# Altium footprint library PinHeader.PcbLib: 118 footprints (part 6 of 8)
Each footprint in its own frame and in the unit in brackets; x right, y up, seen from the top. Pads: shape width x height; smd on the part's side, far side on the other; paste and mask are expansions set on the pad; w line width, h text height; cw(c..) or ccw(c..) is an arc to the next point about the centre after c.
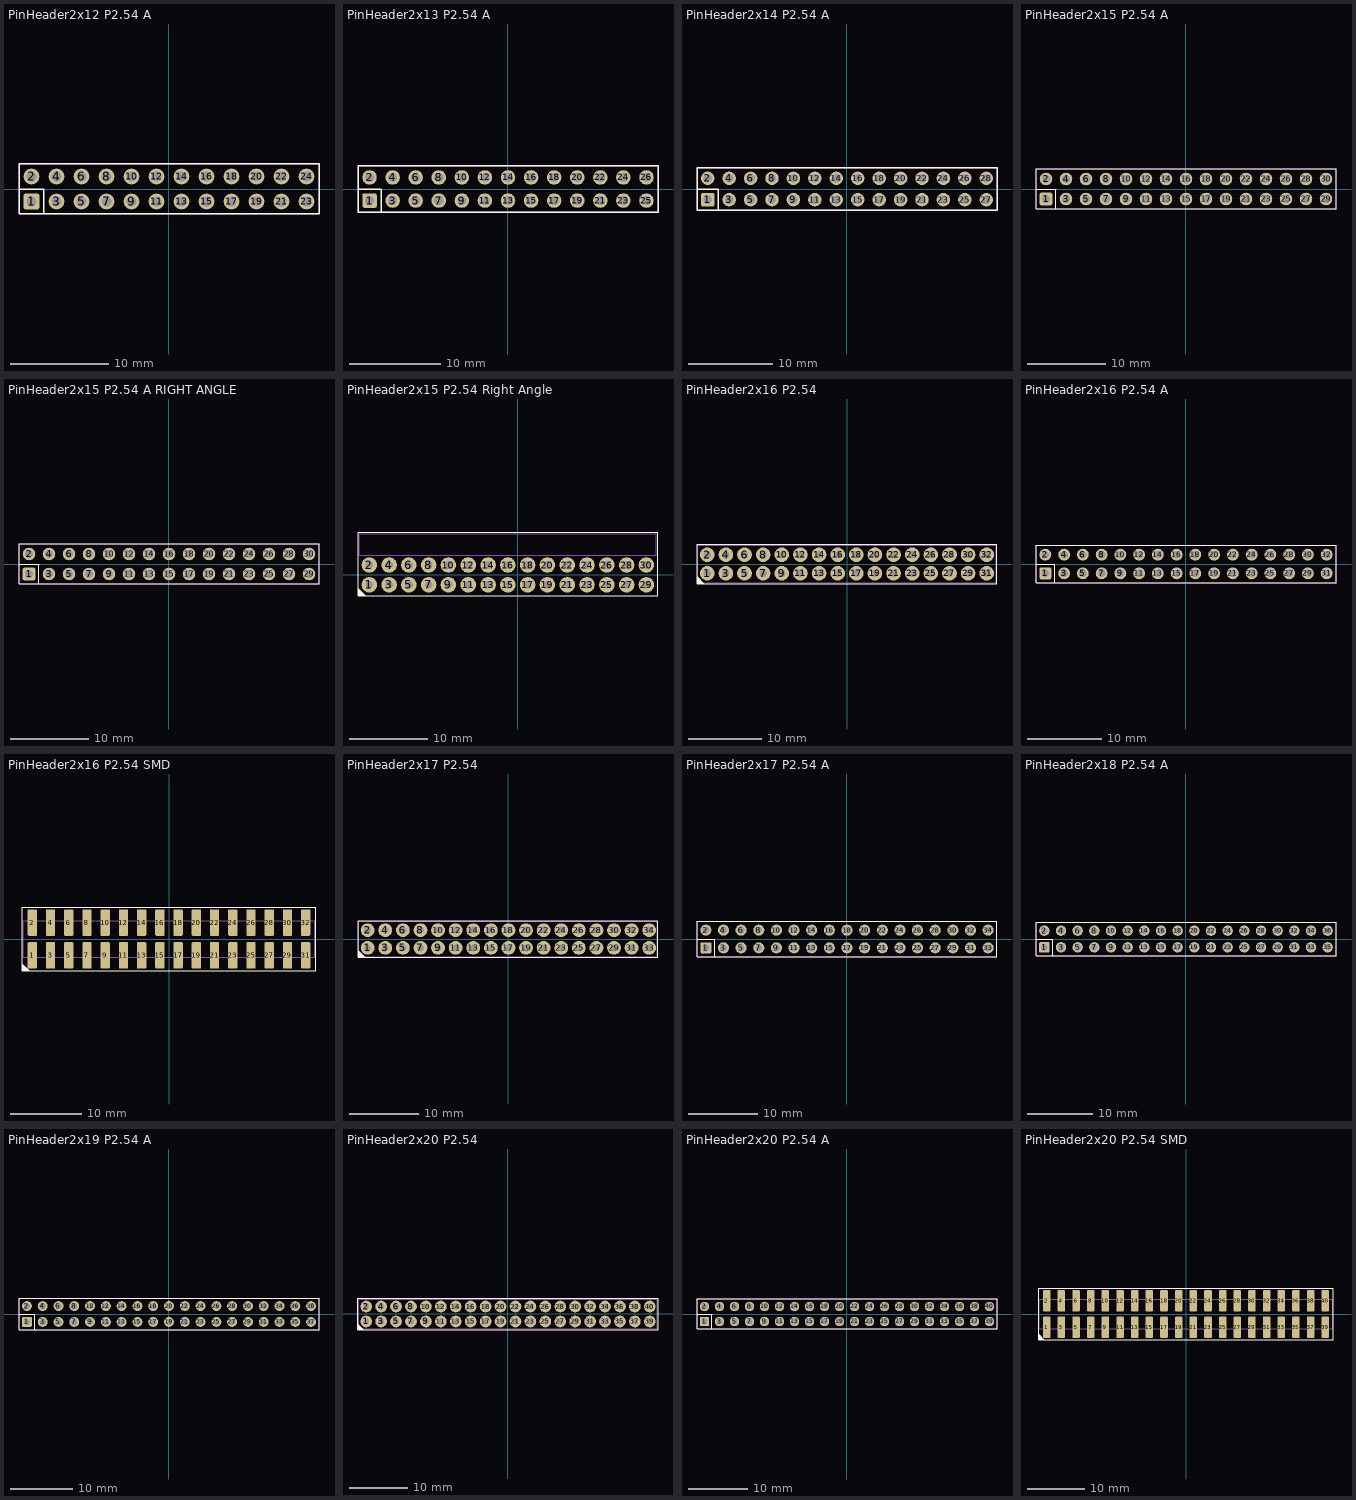
[diagram p5: the footprints below, top view; thin cyan lines are the x and y axes]

## PinHeader2x12 P2.54 A [mm] "Plug connector"
height 8.5
pads (24):
  rrect25% 1.6x1.6 hole 1: 1(-13.97,-1.27)
  round 1.6 hole 1: 2(-13.97,1.27) 3(-11.43,-1.27) 4(-11.43,1.27) 5(-8.89,-1.27) 6(-8.89,1.27) 7(-6.35,-1.27) 8(-6.35,1.27) 9(-3.81,-1.27) 10(-3.81,1.27) 11(-1.27,-1.27) 12(-1.27,1.27) 13(1.27,-1.27) 14(1.27,1.27) 15(3.81,-1.27) 16(3.81,1.27) 17(6.35,-1.27) 18(6.35,1.27) 19(8.89,-1.27) 20(8.89,1.27) 21(11.43,-1.27) 22(11.43,1.27) 23(13.97,-1.27) 24(13.97,1.27)
Top Overlay:
  lines w0.15: -15.24,0 -12.7,0 -12.7,-2.54 ; -15.24,-2.54 -15.24,2.54 15.24,2.54 15.24,-2.54 -15.24,-2.54
Mechanical 13:
  lines w0.15: -15.24,-2.54 15.24,-2.54 15.24,2.54 -15.24,2.54 -15.24,-2.54
3D body: height 2.5, standoff 0.1, extent -15.24,-2.54 15.24,2.54
3D body: height 8.5, standoff 2.6, extent -14.287,-1.587 14.287,1.587

## PinHeader2x13 P2.54 A [mm] "Plug connector"
height 8.5
pads (26):
  rrect25% 1.6x1.6 hole 1: 1(-15.24,-1.27)
  round 1.6 hole 1: 2(-15.24,1.27) 3(-12.7,-1.27) 4(-12.7,1.27) 5(-10.16,-1.27) 6(-10.16,1.27) 7(-7.62,-1.27) 8(-7.62,1.27) 9(-5.08,-1.27) 10(-5.08,1.27) 11(-2.54,-1.27) 12(-2.54,1.27) 13(0,-1.27) 14(0,1.27) 15(2.54,-1.27) 16(2.54,1.27) 17(5.08,-1.27) 18(5.08,1.27) 19(7.62,-1.27) 20(7.62,1.27) 21(10.16,-1.27) 22(10.16,1.27) 23(12.7,-1.27) 24(12.7,1.27) 25(15.24,-1.27) 26(15.24,1.27)
Top Overlay:
  lines w0.15: -16.51,0 -13.97,0 -13.97,-2.54 ; -16.51,-2.54 16.51,-2.54 16.51,2.54 -16.51,2.54 -16.51,-2.54
Mechanical 13:
  lines w0.15: -16.51,-2.54 -16.51,2.54 16.51,2.54 16.51,-2.54 -16.51,-2.54
3D body: height 8.5, standoff 2.6, extent -15.557,-1.587 15.557,1.587
3D body: height 2.5, standoff 0.1, extent -16.51,-2.54 16.51,2.54

## PinHeader2x14 P2.54 A [mm] "Plug connector"
height 8.5
pads (28):
  rrect25% 1.6x1.6 hole 1: 1(-16.51,-1.27)
  round 1.6 hole 1: 2(-16.51,1.27) 3(-13.97,-1.27) 4(-13.97,1.27) 5(-11.43,-1.27) 6(-11.43,1.27) 7(-8.89,-1.27) 8(-8.89,1.27) 9(-6.35,-1.27) 10(-6.35,1.27) 11(-3.81,-1.27) 12(-3.81,1.27) 13(-1.27,-1.27) 14(-1.27,1.27) 15(1.27,-1.27) 16(1.27,1.27) 17(3.81,-1.27) 18(3.81,1.27) 19(6.35,-1.27) 20(6.35,1.27) 21(8.89,-1.27) 22(8.89,1.27) 23(11.43,-1.27) 24(11.43,1.27) 25(13.97,-1.27) 26(13.97,1.27) 27(16.51,-1.27) 28(16.51,1.27)
Top Overlay:
  lines w0.15: -17.78,0 -15.24,0 -15.24,-2.54 ; -17.78,-2.54 -17.78,2.54 17.78,2.54 17.78,-2.54 -17.78,-2.54
Mechanical 13:
  lines w0.15: -17.78,-2.54 17.78,-2.54 17.78,2.54 -17.78,2.54 -17.78,-2.54
3D body: height 2.5, standoff 0.1, extent -17.78,-2.54 17.78,2.54
3D body: height 8.5, standoff 2.6, extent -16.828,-1.587 16.828,1.587

## PinHeader2x15 P2.54 A [mm] "Plug connector"
height 8.5
pads (30):
  rrect25% 1.6x1.6 hole 1: 1(-17.78,-1.27)
  round 1.6 hole 1: 2(-17.78,1.27) 3(-15.24,-1.27) 4(-15.24,1.27) 5(-12.7,-1.27) 6(-12.7,1.27) 7(-10.16,-1.27) 8(-10.16,1.27) 9(-7.62,-1.27) 10(-7.62,1.27) 11(-5.08,-1.27) 12(-5.08,1.27) 13(-2.54,-1.27) 14(-2.54,1.27) 15(0,-1.27) 16(0,1.27) 17(2.54,-1.27) 18(2.54,1.27) 19(5.08,-1.27) 20(5.08,1.27) 21(7.62,-1.27) 22(7.62,1.27) 23(10.16,-1.27) 24(10.16,1.27) 25(12.7,-1.27) 26(12.7,1.27) 27(15.24,-1.27) 28(15.24,1.27) 29(17.78,-1.27) 30(17.78,1.27)
Top Overlay:
  lines w0.15: -19.05,0 -16.51,0 -16.51,-2.54 ; -19.05,-2.54 -19.05,2.54 19.05,2.54 19.05,-2.54 -19.05,-2.54
Mechanical 13:
  lines w0.15: -19.05,-2.54 19.05,-2.54 19.05,2.54 -19.05,2.54 -19.05,-2.54
3D body: height 2.5, standoff 0.1, extent -19.05,-2.54 19.05,2.54
3D body: height 8.5, standoff 2.6, extent -18.098,-1.588 18.098,1.587

## PinHeader2x15 P2.54 A RIGHT ANGLE [mm] "Plug connector"
height 8.5
pads (30):
  rrect25% 1.6x1.6 hole 1: 1(-17.78,-1.27)
  round 1.6 hole 1: 2(-17.78,1.27) 3(-15.24,-1.27) 4(-15.24,1.27) 5(-12.7,-1.27) 6(-12.7,1.27) 7(-10.16,-1.27) 8(-10.16,1.27) 9(-7.62,-1.27) 10(-7.62,1.27) 11(-5.08,-1.27) 12(-5.08,1.27) 13(-2.54,-1.27) 14(-2.54,1.27) 15(0,-1.27) 16(0,1.27) 17(2.54,-1.27) 18(2.54,1.27) 19(5.08,-1.27) 20(5.08,1.27) 21(7.62,-1.27) 22(7.62,1.27) 23(10.16,-1.27) 24(10.16,1.27) 25(12.7,-1.27) 26(12.7,1.27) 27(15.24,-1.27) 28(15.24,1.27) 29(17.78,-1.27) 30(17.78,1.27)
Top Overlay:
  lines w0.15: -19.05,0 -16.51,0 -16.51,-2.54 ; -19.05,-2.54 19.05,-2.54 19.05,2.54 -19.05,2.54 -19.05,-2.54
Mechanical 13:
  lines w0.15: -19.05,-2.54 -19.05,2.54 19.05,2.54 19.05,-2.54 -19.05,-2.54
3D body: height 4.1, standoff 0.8, extent -18.098,-10.3 18.098,-4.513
3D body: height 4.1, standoff 0.1, extent -18.098,-2.6 18.098,1.587
3D body: height 5, standoff 0.1, extent -19.05,-4.54 19.05,-2.5

## PinHeader2x15 P2.54 Right Angle [mm] "Plug connector"
height 4.8
pads (30):
  round 2 hole 1: 1(-19.05,-1.27) 2(-19.05,1.27) 3(-16.51,-1.27) 4(-16.51,1.27) 5(-13.97,-1.27) 6(-13.97,1.27) 7(-11.43,-1.27) 8(-11.43,1.27) 9(-8.89,-1.27) 10(-8.89,1.27) 11(-6.35,-1.27) 12(-6.35,1.27) 13(-3.81,-1.27) 14(-3.81,1.27) 15(-1.27,-1.27) 16(-1.27,1.27) 17(1.27,-1.27) 18(1.27,1.27) 19(3.81,-1.27) 20(3.81,1.27) 21(6.35,-1.27) 22(6.35,1.27) 23(8.89,-1.27) 24(8.89,1.27) 25(11.43,-1.27) 26(11.43,1.27) 27(13.97,-1.27) 28(13.97,1.27) 29(16.51,-1.27) 30(16.51,1.27)
Top Overlay:
  region: -20.5,-2.7 -20.5,-1.684 -19.484,-2.7
  lines w0.15: -20.5,-2.7 18,-2.7 18,5.5 -20.5,5.5 -20.5,-2.7
Mechanical 13:
  lines w0.15: -20.32,2.5 -20.32,5.3 17.78,5.3 17.78,2.5 -20.32,2.5
3D body: height 5.08, standoff 0, extent -20.32,2.5 17.78,5.3
3D body: height 1.55, standoff 0.95, extent -19.35,0.97 -18.75,11.3
3D body: height 1.25, standoff -2.5, extent -19.35,0.97 -18.75,1.57
3D body: height 4.1, standoff -2.5, extent -19.35,-1.57 -18.75,-0.97
3D body: height 4.1, standoff 3.5, extent -19.35,-1.57 -18.75,11.3
3D body: height 4.1, standoff 3.5, extent -16.81,-1.57 -16.21,11.3
3D body: height 4.1, standoff -2.5, extent -16.81,-1.57 -16.21,-0.97
3D body: height 1.25, standoff -2.5, extent -16.81,0.97 -16.21,1.57
3D body: height 1.55, standoff 0.95, extent -16.81,0.97 -16.21,11.3
3D body: height 4.1, standoff 3.5, extent -14.27,-1.57 -13.67,11.3
3D body: height 4.1, standoff -2.5, extent -14.27,-1.57 -13.67,-0.97
3D body: height 1.25, standoff -2.5, extent -14.27,0.97 -13.67,1.57
3D body: height 1.55, standoff 0.95, extent -14.27,0.97 -13.67,11.3
3D body: height 4.1, standoff 3.5, extent -11.73,-1.57 -11.13,11.3
3D body: height 4.1, standoff -2.5, extent -11.73,-1.57 -11.13,-0.97
3D body: height 1.25, standoff -2.5, extent -11.73,0.97 -11.13,1.57
3D body: height 1.55, standoff 0.95, extent -11.73,0.97 -11.13,11.3
3D body: height 4.1, standoff 3.5, extent -9.19,-1.57 -8.59,11.3
3D body: height 4.1, standoff -2.5, extent -9.19,-1.57 -8.59,-0.97
3D body: height 1.25, standoff -2.5, extent -9.19,0.97 -8.59,1.57
3D body: height 1.55, standoff 0.95, extent -9.19,0.97 -8.59,11.3
3D body: height 4.1, standoff 3.5, extent -6.65,-1.57 -6.05,11.3
3D body: height 4.1, standoff -2.5, extent -6.65,-1.57 -6.05,-0.97
3D body: height 1.25, standoff -2.5, extent -6.65,0.97 -6.05,1.57
3D body: height 1.55, standoff 0.95, extent -6.65,0.97 -6.05,11.3
3D body: height 4.1, standoff 3.5, extent -4.11,-1.57 -3.51,11.3
3D body: height 4.1, standoff -2.5, extent -4.11,-1.57 -3.51,-0.97
3D body: height 1.25, standoff -2.5, extent -4.11,0.97 -3.51,1.57
3D body: height 1.55, standoff 0.95, extent -4.11,0.97 -3.51,11.3
3D body: height 4.1, standoff 3.5, extent -1.57,-1.57 -0.97,11.3
3D body: height 4.1, standoff -2.5, extent -1.57,-1.57 -0.97,-0.97
3D body: height 1.25, standoff -2.5, extent -1.57,0.97 -0.97,1.57
3D body: height 1.55, standoff 0.95, extent -1.57,0.97 -0.97,11.3
3D body: height 4.1, standoff 3.5, extent 0.97,-1.57 1.57,11.3
3D body: height 4.1, standoff -2.5, extent 0.97,-1.57 1.57,-0.97
3D body: height 1.25, standoff -2.5, extent 0.97,0.97 1.57,1.57
3D body: height 1.55, standoff 0.95, extent 0.97,0.97 1.57,11.3
3D body: height 4.1, standoff 3.5, extent 3.51,-1.57 4.11,11.3
3D body: height 4.1, standoff -2.5, extent 3.51,-1.57 4.11,-0.97
3D body: height 1.25, standoff -2.5, extent 3.51,0.97 4.11,1.57
3D body: height 1.55, standoff 0.95, extent 3.51,0.97 4.11,11.3
3D body: height 4.1, standoff 3.5, extent 6.05,-1.57 6.65,11.3
3D body: height 4.1, standoff -2.5, extent 6.05,-1.57 6.65,-0.97
3D body: height 1.25, standoff -2.5, extent 6.05,0.97 6.65,1.57
3D body: height 1.55, standoff 0.95, extent 6.05,0.97 6.65,11.3
3D body: height 4.1, standoff 3.5, extent 8.59,-1.57 9.19,11.3
3D body: height 4.1, standoff -2.5, extent 8.59,-1.57 9.19,-0.97
3D body: height 1.25, standoff -2.5, extent 8.59,0.97 9.19,1.57
3D body: height 1.55, standoff 0.95, extent 8.59,0.97 9.19,11.3
3D body: height 4.1, standoff 3.5, extent 11.13,-1.57 11.73,11.3
3D body: height 4.1, standoff -2.5, extent 11.13,-1.57 11.73,-0.97
3D body: height 1.25, standoff -2.5, extent 11.13,0.97 11.73,1.57
3D body: height 1.55, standoff 0.95, extent 11.13,0.97 11.73,11.3
3D body: height 4.1, standoff 3.5, extent 13.67,-1.57 14.27,11.3
3D body: height 4.1, standoff -2.5, extent 13.67,-1.57 14.27,-0.97
3D body: height 1.25, standoff -2.5, extent 13.67,0.97 14.27,1.57
3D body: height 1.55, standoff 0.95, extent 13.67,0.97 14.27,11.3
3D body: height 4.1, standoff 3.5, extent 16.21,-1.57 16.81,11.3
3D body: height 4.1, standoff -2.5, extent 16.21,-1.57 16.81,-0.97
3D body: height 1.25, standoff -2.5, extent 16.21,0.97 16.81,1.57
3D body: height 1.55, standoff 0.95, extent 16.21,0.97 16.81,11.3

## PinHeader2x16 P2.54 [mm] "Plug connector"
height 8.5
pads (32):
  round 2 hole 1: 1(-19.05,-1.27) 2(-19.05,1.27) 3(-16.51,-1.27) 4(-16.51,1.27) 5(-13.97,-1.27) 6(-13.97,1.27) 7(-11.43,-1.27) 8(-11.43,1.27) 9(-8.89,-1.27) 10(-8.89,1.27) 11(-6.35,-1.27) 12(-6.35,1.27) 13(-3.81,-1.27) 14(-3.81,1.27) 15(-1.27,-1.27) 16(-1.27,1.27) 17(1.27,-1.27) 18(1.27,1.27) 19(3.81,-1.27) 20(3.81,1.27) 21(6.35,-1.27) 22(6.35,1.27) 23(8.89,-1.27) 24(8.89,1.27) 25(11.43,-1.27) 26(11.43,1.27) 27(13.97,-1.27) 28(13.97,1.27) 29(16.51,-1.27) 30(16.51,1.27) 31(19.05,-1.27) 32(19.05,1.27)
Top Overlay:
  region: -20.447,-2.667 -20.447,-1.651 -19.431,-2.667
  lines w0.15: -20.447,-2.667 20.447,-2.667 20.447,2.667 -20.447,2.667 -20.447,-2.667
Mechanical 13:
  lines w0.15: -20.32,-2.54 -20.32,2.54 20.32,2.54 20.32,-2.54 -20.32,-2.54
3D body: height 8.5, standoff -2.5, extent 8.509,0.89 9.27,1.65
3D body: height 8.5, standoff -2.5, extent 5.969,0.89 6.73,1.65
3D body: height 8.5, standoff -2.5, extent 11.049,0.89 11.81,1.65
3D body: height 8.5, standoff -2.5, extent 13.589,0.89 14.35,1.65
3D body: height 8.5, standoff -2.5, extent 18.669,0.89 19.43,1.65
3D body: height 8.5, standoff -2.5, extent 16.129,0.89 16.89,1.65
3D body: height 8.5, standoff -2.5, extent 0.89,-1.65 1.651,-0.89
3D body: height 8.5, standoff -2.5, extent 3.43,-1.65 4.191,-0.89
3D body: height 8.5, standoff -2.5, extent -1.65,-1.65 -0.889,-0.89
3D body: height 8.5, standoff -2.5, extent -4.19,-1.65 -3.429,-0.89
3D body: height 8.5, standoff -2.5, extent -19.43,-1.65 -18.67,-0.89
3D body: height 8.5, standoff -2.5, extent -9.27,-1.65 -8.509,-0.89
3D body: height 8.5, standoff -2.5, extent -16.89,-1.65 -16.13,-0.89
3D body: height 8.5, standoff -2.5, extent -14.35,-1.65 -13.589,-0.89
3D body: height 8.5, standoff -2.5, extent -11.81,-1.65 -11.049,-0.89
3D body: height 8.5, standoff -2.5, extent -6.73,-1.65 -5.969,-0.89
3D body: height 8.5, standoff -2.5, extent 8.509,-1.65 9.27,-0.89
3D body: height 8.5, standoff -2.5, extent 5.969,-1.65 6.73,-0.89
3D body: height 8.5, standoff -2.5, extent 11.049,-1.65 11.81,-0.89
3D body: height 8.5, standoff -2.5, extent 13.589,-1.65 14.35,-0.89
3D body: height 8.5, standoff -2.5, extent 18.669,-1.65 19.43,-0.89
3D body: height 8.5, standoff -2.5, extent 16.129,-1.65 16.89,-0.89
3D body: height 8.5, standoff -2.5, extent -6.73,0.89 -5.969,1.65
3D body: height 8.5, standoff -2.5, extent -11.81,0.89 -11.049,1.65
3D body: height 8.5, standoff -2.5, extent -14.35,0.89 -13.589,1.65
3D body: height 8.5, standoff -2.5, extent -16.89,0.89 -16.13,1.65
3D body: height 8.5, standoff -2.5, extent -9.27,0.89 -8.509,1.65
3D body: height 8.5, standoff -2.5, extent -19.43,0.89 -18.67,1.65
3D body: height 2.54, standoff 0, extent -20.32,-2.54 20.32,2.54
3D body: height 8.5, standoff -2.5, extent -4.19,0.89 -3.429,1.65
3D body: height 8.5, standoff -2.5, extent -1.65,0.89 -0.889,1.65
3D body: height 8.5, standoff -2.5, extent 3.43,0.89 4.191,1.65
3D body: height 8.5, standoff -2.5, extent 0.89,0.89 1.651,1.65

## PinHeader2x16 P2.54 A [mm] "Plug connector"
height 8.5
pads (32):
  rrect25% 1.6x1.6 hole 1: 1(-19.05,-1.27)
  round 1.6 hole 1: 2(-19.05,1.27) 3(-16.51,-1.27) 4(-16.51,1.27) 5(-13.97,-1.27) 6(-13.97,1.27) 7(-11.43,-1.27) 8(-11.43,1.27) 9(-8.89,-1.27) 10(-8.89,1.27) 11(-6.35,-1.27) 12(-6.35,1.27) 13(-3.81,-1.27) 14(-3.81,1.27) 15(-1.27,-1.27) 16(-1.27,1.27) 17(1.27,-1.27) 18(1.27,1.27) 19(3.81,-1.27) 20(3.81,1.27) 21(6.35,-1.27) 22(6.35,1.27) 23(8.89,-1.27) 24(8.89,1.27) 25(11.43,-1.27) 26(11.43,1.27) 27(13.97,-1.27) 28(13.97,1.27) 29(16.51,-1.27) 30(16.51,1.27) 31(19.05,-1.27) 32(19.05,1.27)
Top Overlay:
  lines w0.15: -20.32,0 -17.78,0 -17.78,-2.54 ; -20.32,-2.54 -20.32,2.54 20.32,2.54 20.32,-2.54 -20.32,-2.54
Mechanical 13:
  lines w0.15: -20.32,-2.54 20.32,-2.54 20.32,2.54 -20.32,2.54 -20.32,-2.54
3D body: height 2.5, standoff 0.1, extent -20.32,-2.54 20.32,2.54
3D body: height 8.5, standoff 2.6, extent -19.367,-1.587 19.367,1.587

## PinHeader2x16 P2.54 SMD [mm] "Plug connector"
height 8.5
pads (32):
  rrect25% 1.3x3.7 smd: 1(-19.05,-2.286) 2(-19.05,2.286) 3(-16.51,-2.286) 4(-16.51,2.286) 5(-13.97,-2.286) 6(-13.97,2.286) 7(-11.43,-2.286) 8(-11.43,2.286) 9(-8.89,-2.286) 10(-8.89,2.286) 11(-6.35,-2.286) 12(-6.35,2.286) 13(-3.81,-2.286) 14(-3.81,2.286) 15(-1.27,-2.286) 16(-1.27,2.286) 17(1.27,-2.286) 18(1.27,2.286) 19(3.81,-2.286) 20(3.81,2.286) 21(6.35,-2.286) 22(6.35,2.286) 23(8.89,-2.286) 24(8.89,2.286) 25(11.43,-2.286) 26(11.43,2.286) 27(13.97,-2.286) 28(13.97,2.286) 29(16.51,-2.286) 30(16.51,2.286) 31(19.05,-2.286) 32(19.05,2.286)
Top Overlay:
  region: -20.447,-4.445 -20.447,-3.429 -19.431,-4.445
  lines w0.15: -20.447,-4.445 20.447,-4.445 20.447,4.445 -20.447,4.445 -20.447,-4.445
Mechanical 13:
  lines w0.15: -20.32,-2.54 -20.32,2.54 20.32,2.54 20.32,-2.54 -20.32,-2.54
3D body: height 8.5, standoff 0, extent 8.51,-1.65 9.271,-0.889
3D body: height 8.5, standoff 0, extent 5.97,-1.65 6.731,-0.889
3D body: height 8.5, standoff 0, extent 11.05,-1.65 11.811,-0.889
3D body: height 8.5, standoff 0, extent 13.59,-1.65 14.351,-0.889
3D body: height 8.5, standoff 0, extent 18.67,-1.65 19.431,-0.889
3D body: height 8.5, standoff 0, extent 16.13,-1.65 16.891,-0.889
3D body: height 8.5, standoff 0, extent -6.729,-1.65 -5.968,-0.889
3D body: height 8.5, standoff 0, extent -11.809,-1.65 -11.048,-0.889
3D body: height 8.5, standoff 0, extent -14.349,-1.65 -13.588,-0.889
3D body: height 8.5, standoff 0, extent -16.89,-1.65 -16.129,-0.889
3D body: height 8.5, standoff 0, extent -9.269,-1.65 -8.508,-0.889
3D body: height 8.5, standoff 0, extent -19.43,-1.65 -18.669,-0.889
3D body: height 3.56, standoff 1.27, extent -20.32,-2.54 20.32,2.54
3D body: height 8.5, standoff 0, extent -4.189,-1.65 -3.428,-0.889
3D body: height 8.5, standoff 0, extent -1.649,-1.65 -0.888,-0.889
3D body: height 8.5, standoff 0, extent 3.431,-1.65 4.192,-0.889
3D body: height 8.5, standoff 0, extent 0.891,-1.65 1.652,-0.889
3D body: height 0.76, standoff 0, extent -19.43,-3.429 -18.669,-0.889
3D body: height 0.76, standoff 0, extent -16.89,-3.429 -16.129,-0.889
3D body: height 0.76, standoff 0, extent -14.349,-3.429 -13.588,-0.889
3D body: height 0.76, standoff 0, extent -11.809,-3.429 -11.048,-0.889
3D body: height 0.76, standoff 0, extent -9.269,-3.429 -8.508,-0.889
3D body: height 0.76, standoff 0, extent -6.729,-3.429 -5.968,-0.889
3D body: height 0.76, standoff 0, extent -4.189,-3.429 -3.428,-0.889
3D body: height 0.76, standoff 0, extent -1.649,-3.429 -0.888,-0.889
3D body: height 0.76, standoff 0, extent 0.891,-3.429 1.652,-0.889
3D body: height 0.76, standoff 0, extent 3.431,-3.429 4.192,-0.889
3D body: height 0.76, standoff 0, extent 5.97,-3.429 6.731,-0.889
3D body: height 0.76, standoff 0, extent 8.51,-3.429 9.271,-0.889
3D body: height 0.76, standoff 0, extent 11.05,-3.429 11.811,-0.889
3D body: height 0.76, standoff 0, extent 13.59,-3.429 14.351,-0.889
3D body: height 0.76, standoff 0, extent 16.13,-3.429 16.891,-0.889
3D body: height 0.76, standoff 0, extent 18.67,-3.429 19.431,-0.889
3D body: height 0.76, standoff 0, extent -19.431,0.889 -18.67,3.429
3D body: height 0.76, standoff 0, extent -16.891,0.889 -16.13,3.429
3D body: height 0.76, standoff 0, extent -14.35,0.889 -13.589,3.429
3D body: height 0.76, standoff 0, extent -11.81,0.889 -11.049,3.429
3D body: height 0.76, standoff 0, extent -9.27,0.889 -8.509,3.429
3D body: height 0.76, standoff 0, extent -6.73,0.889 -5.969,3.429
3D body: height 0.76, standoff 0, extent -4.19,0.889 -3.429,3.429
3D body: height 0.76, standoff 0, extent -1.65,0.889 -0.889,3.429
3D body: height 0.76, standoff 0, extent 0.89,0.889 1.651,3.429
3D body: height 0.76, standoff 0, extent 3.43,0.889 4.191,3.429
3D body: height 0.76, standoff 0, extent 5.969,0.889 6.73,3.429
3D body: height 0.76, standoff 0, extent 8.509,0.889 9.27,3.429
3D body: height 0.76, standoff 0, extent 11.049,0.889 11.81,3.429
3D body: height 0.76, standoff 0, extent 13.589,0.889 14.35,3.429
3D body: height 0.76, standoff 0, extent 16.129,0.889 16.89,3.429
3D body: height 0.76, standoff 0, extent 18.669,0.889 19.43,3.429
3D body: height 8.5, standoff 0, extent 8.509,0.889 9.27,1.65
3D body: height 8.5, standoff 0, extent 5.969,0.889 6.73,1.65
3D body: height 8.5, standoff 0, extent 11.049,0.889 11.81,1.65
3D body: height 8.5, standoff 0, extent 13.589,0.889 14.35,1.65
3D body: height 8.5, standoff 0, extent 18.669,0.889 19.43,1.65
3D body: height 8.5, standoff 0, extent 16.129,0.889 16.89,1.65
3D body: height 8.5, standoff 0, extent -6.73,0.889 -5.969,1.65
3D body: height 8.5, standoff 0, extent -11.81,0.889 -11.049,1.65
3D body: height 8.5, standoff 0, extent -14.35,0.889 -13.589,1.65
3D body: height 8.5, standoff 0, extent -16.891,0.889 -16.13,1.65
3D body: height 8.5, standoff 0, extent -9.27,0.889 -8.509,1.65
3D body: height 8.5, standoff 0, extent -19.431,0.889 -18.67,1.65
3D body: height 8.5, standoff 0, extent -4.19,0.889 -3.429,1.65
3D body: height 8.5, standoff 0, extent -1.65,0.889 -0.889,1.65
3D body: height 8.5, standoff 0, extent 3.43,0.889 4.191,1.65
3D body: height 8.5, standoff 0, extent 0.89,0.889 1.651,1.65

## PinHeader2x17 P2.54 [mm] "Plug connector"
height 8.5
pads (34):
  round 2 hole 1: 1(-20.32,-1.27) 2(-20.32,1.27) 3(-17.78,-1.27) 4(-17.78,1.27) 5(-15.24,-1.27) 6(-15.24,1.27) 7(-12.7,-1.27) 8(-12.7,1.27) 9(-10.16,-1.27) 10(-10.16,1.27) 11(-7.62,-1.27) 12(-7.62,1.27) 13(-5.08,-1.27) 14(-5.08,1.27) 15(-2.54,-1.27) 16(-2.54,1.27) 17(0,-1.27) 18(0,1.27) 19(2.54,-1.27) 20(2.54,1.27) 21(5.08,-1.27) 22(5.08,1.27) 23(7.62,-1.27) 24(7.62,1.27) 25(10.16,-1.27) 26(10.16,1.27) 27(12.7,-1.27) 28(12.7,1.27) 29(15.24,-1.27) 30(15.24,1.27) 31(17.78,-1.27) 32(17.78,1.27) 33(20.32,-1.27) 34(20.32,1.27)
Top Overlay:
  region: -21.717,-2.667 -21.717,-1.651 -20.701,-2.667
  lines w0.15: -21.717,-2.667 -21.717,2.667 21.59,2.667 21.59,-2.667 -21.717,-2.667
Mechanical 13:
  lines w0.15: -21.59,-2.54 21.463,-2.54 21.463,2.54 -21.59,2.54 -21.59,-2.54
3D body: height 8.5, standoff -2.5, extent 19.939,0.89 20.7,1.65
3D body: height 8.5, standoff -2.5, extent 19.939,-1.65 20.7,-0.89
3D body: height 8.5, standoff -2.5, extent -0.38,0.89 0.381,1.65
3D body: height 8.5, standoff -2.5, extent 2.16,0.89 2.921,1.65
3D body: height 8.5, standoff -2.5, extent -2.92,0.89 -2.159,1.65
3D body: height 8.5, standoff -2.5, extent -5.46,0.89 -4.699,1.65
3D body: height 8.5, standoff -2.5, extent -20.7,0.89 -19.94,1.65
3D body: height 8.5, standoff -2.5, extent -10.54,0.89 -9.779,1.65
3D body: height 8.5, standoff -2.5, extent -18.16,0.89 -17.4,1.65
3D body: height 8.5, standoff -2.5, extent -15.62,0.89 -14.859,1.65
3D body: height 8.5, standoff -2.5, extent -13.08,0.89 -12.319,1.65
3D body: height 8.5, standoff -2.5, extent -8,0.89 -7.239,1.65
3D body: height 8.5, standoff -2.5, extent 14.859,-1.65 15.62,-0.89
3D body: height 8.5, standoff -2.5, extent 17.399,-1.65 18.16,-0.89
3D body: height 8.5, standoff -2.5, extent 12.319,-1.65 13.08,-0.89
3D body: height 8.5, standoff -2.5, extent 9.779,-1.65 10.54,-0.89
3D body: height 8.5, standoff -2.5, extent 4.699,-1.65 5.46,-0.89
3D body: height 8.5, standoff -2.5, extent 7.239,-1.65 8,-0.89
3D body: height 8.5, standoff -2.5, extent -8,-1.65 -7.239,-0.89
3D body: height 8.5, standoff -2.5, extent -13.08,-1.65 -12.319,-0.89
3D body: height 8.5, standoff -2.5, extent -15.62,-1.65 -14.859,-0.89
3D body: height 8.5, standoff -2.5, extent -18.16,-1.65 -17.4,-0.89
3D body: height 8.5, standoff -2.5, extent -10.54,-1.65 -9.779,-0.89
3D body: height 8.5, standoff -2.5, extent -20.7,-1.65 -19.94,-0.89
3D body: height 8.5, standoff -2.5, extent -5.46,-1.65 -4.699,-0.89
3D body: height 8.5, standoff -2.5, extent -2.92,-1.65 -2.159,-0.89
3D body: height 8.5, standoff -2.5, extent 2.16,-1.65 2.921,-0.89
3D body: height 8.5, standoff -2.5, extent -0.38,-1.65 0.381,-0.89
3D body: height 8.5, standoff -2.5, extent 14.859,0.89 15.62,1.65
3D body: height 8.5, standoff -2.5, extent 17.399,0.89 18.16,1.65
3D body: height 8.5, standoff -2.5, extent 12.319,0.89 13.08,1.65
3D body: height 8.5, standoff -2.5, extent 9.779,0.89 10.54,1.65
3D body: height 8.5, standoff -2.5, extent 4.699,0.89 5.46,1.65
3D body: height 8.5, standoff -2.5, extent 7.239,0.89 8,1.65
3D body: height 2.54, standoff 0, extent -21.59,-2.54 21.463,2.54

## PinHeader2x17 P2.54 A [mm] "Plug connector"
height 8.5
pads (34):
  rrect25% 1.6x1.6 hole 1: 1(-20.32,-1.27)
  round 1.6 hole 1: 2(-20.32,1.27) 3(-17.78,-1.27) 4(-17.78,1.27) 5(-15.24,-1.27) 6(-15.24,1.27) 7(-12.7,-1.27) 8(-12.7,1.27) 9(-10.16,-1.27) 10(-10.16,1.27) 11(-7.62,-1.27) 12(-7.62,1.27) 13(-5.08,-1.27) 14(-5.08,1.27) 15(-2.54,-1.27) 16(-2.54,1.27) 17(0,-1.27) 18(0,1.27) 19(2.54,-1.27) 20(2.54,1.27) 21(5.08,-1.27) 22(5.08,1.27) 23(7.62,-1.27) 24(7.62,1.27) 25(10.16,-1.27) 26(10.16,1.27) 27(12.7,-1.27) 28(12.7,1.27) 29(15.24,-1.27) 30(15.24,1.27) 31(17.78,-1.27) 32(17.78,1.27) 33(20.32,-1.27) 34(20.32,1.27)
Top Overlay:
  lines w0.15: -21.59,0 -19.05,0 -19.05,-2.54 ; -21.59,-2.54 21.59,-2.54 21.59,2.54 -21.59,2.54 -21.59,-2.54
Mechanical 13:
  lines w0.15: -21.59,-2.54 -21.59,2.54 21.59,2.54 21.59,-2.54 -21.59,-2.54
3D body: height 8.5, standoff 2.6, extent -20.637,-1.587 20.637,1.587
3D body: height 2.5, standoff 0.1, extent -21.59,-2.54 21.59,2.54

## PinHeader2x18 P2.54 A [mm] "Plug connector"
height 8.5
pads (36):
  rrect25% 1.6x1.6 hole 1: 1(-21.59,-1.27)
  round 1.6 hole 1: 2(-21.59,1.27) 3(-19.05,-1.27) 4(-19.05,1.27) 5(-16.51,-1.27) 6(-16.51,1.27) 7(-13.97,-1.27) 8(-13.97,1.27) 9(-11.43,-1.27) 10(-11.43,1.27) 11(-8.89,-1.27) 12(-8.89,1.27) 13(-6.35,-1.27) 14(-6.35,1.27) 15(-3.81,-1.27) 16(-3.81,1.27) 17(-1.27,-1.27) 18(-1.27,1.27) 19(1.27,-1.27) 20(1.27,1.27) 21(3.81,-1.27) 22(3.81,1.27) 23(6.35,-1.27) 24(6.35,1.27) 25(8.89,-1.27) 26(8.89,1.27) 27(11.43,-1.27) 28(11.43,1.27) 29(13.97,-1.27) 30(13.97,1.27) 31(16.51,-1.27) 32(16.51,1.27) 33(19.05,-1.27) 34(19.05,1.27) 35(21.59,-1.27) 36(21.59,1.27)
Top Overlay:
  lines w0.15: -22.86,0 -20.32,0 -20.32,-2.54 ; -22.86,-2.54 -22.86,2.54 22.86,2.54 22.86,-2.54 -22.86,-2.54
Mechanical 13:
  lines w0.15: -22.86,-2.54 22.86,-2.54 22.86,2.54 -22.86,2.54 -22.86,-2.54
3D body: height 2.5, standoff 0.1, extent -22.86,-2.54 22.86,2.54
3D body: height 8.5, standoff 2.6, extent -21.907,-1.587 21.907,1.587

## PinHeader2x19 P2.54 A [mm] "Plug connector"
height 8.5
pads (38):
  rrect25% 1.6x1.6 hole 1: 1(-22.86,-1.27)
  round 1.6 hole 1: 2(-22.86,1.27) 3(-20.32,-1.27) 4(-20.32,1.27) 5(-17.78,-1.27) 6(-17.78,1.27) 7(-15.24,-1.27) 8(-15.24,1.27) 9(-12.7,-1.27) 10(-12.7,1.27) 11(-10.16,-1.27) 12(-10.16,1.27) 13(-7.62,-1.27) 14(-7.62,1.27) 15(-5.08,-1.27) 16(-5.08,1.27) 17(-2.54,-1.27) 18(-2.54,1.27) 19(0,-1.27) 20(0,1.27) 21(2.54,-1.27) 22(2.54,1.27) 23(5.08,-1.27) 24(5.08,1.27) 25(7.62,-1.27) 26(7.62,1.27) 27(10.16,-1.27) 28(10.16,1.27) 29(12.7,-1.27) 30(12.7,1.27) 31(15.24,-1.27) 32(15.24,1.27) 33(17.78,-1.27) 34(17.78,1.27) 35(20.32,-1.27) 36(20.32,1.27) 37(22.86,-1.27) 38(22.86,1.27)
Top Overlay:
  lines w0.15: -24.13,0 -21.59,0 -21.59,-2.54 ; -24.13,-2.54 24.13,-2.54 24.13,2.54 -24.13,2.54 -24.13,-2.54
Mechanical 13:
  lines w0.15: -24.13,-2.54 -24.13,2.54 24.13,2.54 24.13,-2.54 -24.13,-2.54
3D body: height 8.5, standoff 2.6, extent -23.177,-1.587 23.177,1.587
3D body: height 2.5, standoff 0.1, extent -24.13,-2.54 24.13,2.54

## PinHeader2x20 P2.54 [mm] "Plug connector"
height 8.5
pads (40):
  round 2 hole 1: 1(-24.13,-1.27) 2(-24.13,1.27) 3(-21.59,-1.27) 4(-21.59,1.27) 5(-19.05,-1.27) 6(-19.05,1.27) 7(-16.51,-1.27) 8(-16.51,1.27) 9(-13.97,-1.27) 10(-13.97,1.27) 11(-11.43,-1.27) 12(-11.43,1.27) 13(-8.89,-1.27) 14(-8.89,1.27) 15(-6.35,-1.27) 16(-6.35,1.27) 17(-3.81,-1.27) 18(-3.81,1.27) 19(-1.27,-1.27) 20(-1.27,1.27) 21(1.27,-1.27) 22(1.27,1.27) 23(3.81,-1.27) 24(3.81,1.27) 25(6.35,-1.27) 26(6.35,1.27) 27(8.89,-1.27) 28(8.89,1.27) 29(11.43,-1.27) 30(11.43,1.27) 31(13.97,-1.27) 32(13.97,1.27) 33(16.51,-1.27) 34(16.51,1.27) 35(19.05,-1.27) 36(19.05,1.27) 37(21.59,-1.27) 38(21.59,1.27) 39(24.13,-1.27) 40(24.13,1.27)
Top Overlay:
  region: -25.527,-2.667 -25.527,-1.651 -24.511,-2.667
  lines w0.15: -25.527,-2.667 -25.527,2.667 25.527,2.667 25.527,-2.667 -25.527,-2.667
Mechanical 13:
  lines w0.15: -25.4,-2.54 25.4,-2.54 25.4,2.54 -25.4,2.54 -25.4,-2.54
3D body: height 8.5, standoff -2.5, extent -4.19,0.89 -3.429,1.65
3D body: height 8.5, standoff -2.5, extent -1.65,0.89 -0.889,1.65
3D body: height 8.5, standoff -2.5, extent -6.73,0.89 -5.969,1.65
3D body: height 8.5, standoff -2.5, extent -9.27,0.89 -8.509,1.65
3D body: height 2.54, standoff 0, extent -25.4,-2.54 25.4,2.54
3D body: height 8.5, standoff -2.5, extent -24.51,0.89 -23.75,1.65
3D body: height 8.5, standoff -2.5, extent -14.35,0.89 -13.589,1.65
3D body: height 8.5, standoff -2.5, extent -21.97,0.89 -21.21,1.65
3D body: height 8.5, standoff -2.5, extent -19.43,0.89 -18.669,1.65
3D body: height 8.5, standoff -2.5, extent -16.89,0.89 -16.129,1.65
3D body: height 8.5, standoff -2.5, extent -11.81,0.89 -11.049,1.65
3D body: height 8.5, standoff -2.5, extent 11.049,-1.65 11.81,-0.89
3D body: height 8.5, standoff -2.5, extent 16.129,-1.65 16.89,-0.89
3D body: height 8.5, standoff -2.5, extent 18.669,-1.65 19.43,-0.89
3D body: height 8.5, standoff -2.5, extent 21.21,-1.65 21.97,-0.89
3D body: height 8.5, standoff -2.5, extent 13.589,-1.65 14.35,-0.89
3D body: height 8.5, standoff -2.5, extent 23.75,-1.65 24.51,-0.89
3D body: height 8.5, standoff -2.5, extent 8.509,-1.65 9.27,-0.89
3D body: height 8.5, standoff -2.5, extent 5.969,-1.65 6.73,-0.89
3D body: height 8.5, standoff -2.5, extent 0.889,-1.65 1.65,-0.89
3D body: height 8.5, standoff -2.5, extent 3.429,-1.65 4.19,-0.89
3D body: height 8.5, standoff -2.5, extent -11.81,-1.65 -11.049,-0.89
3D body: height 8.5, standoff -2.5, extent -16.89,-1.65 -16.129,-0.89
3D body: height 8.5, standoff -2.5, extent -19.43,-1.65 -18.669,-0.89
3D body: height 8.5, standoff -2.5, extent -21.97,-1.65 -21.21,-0.89
3D body: height 8.5, standoff -2.5, extent -14.35,-1.65 -13.589,-0.89
3D body: height 8.5, standoff -2.5, extent -24.51,-1.65 -23.75,-0.89
3D body: height 8.5, standoff -2.5, extent -9.27,-1.65 -8.509,-0.89
3D body: height 8.5, standoff -2.5, extent -6.73,-1.65 -5.969,-0.89
3D body: height 8.5, standoff -2.5, extent -1.65,-1.65 -0.889,-0.89
3D body: height 8.5, standoff -2.5, extent -4.19,-1.65 -3.429,-0.89
3D body: height 8.5, standoff -2.5, extent 11.049,0.89 11.81,1.65
3D body: height 8.5, standoff -2.5, extent 16.129,0.89 16.89,1.65
3D body: height 8.5, standoff -2.5, extent 18.669,0.89 19.43,1.65
3D body: height 8.5, standoff -2.5, extent 21.21,0.89 21.97,1.65
3D body: height 8.5, standoff -2.5, extent 13.589,0.89 14.35,1.65
3D body: height 8.5, standoff -2.5, extent 23.75,0.89 24.51,1.65
3D body: height 8.5, standoff -2.5, extent 8.509,0.89 9.27,1.65
3D body: height 8.5, standoff -2.5, extent 5.969,0.89 6.73,1.65
3D body: height 8.5, standoff -2.5, extent 0.889,0.89 1.65,1.65
3D body: height 8.5, standoff -2.5, extent 3.429,0.89 4.19,1.65

## PinHeader2x20 P2.54 A [mm] "Plug connector"
height 8.5
pads (40):
  rrect25% 1.6x1.6 hole 1: 1(-24.13,-1.27)
  round 1.6 hole 1: 2(-24.13,1.27) 3(-21.59,-1.27) 4(-21.59,1.27) 5(-19.05,-1.27) 6(-19.05,1.27) 7(-16.51,-1.27) 8(-16.51,1.27) 9(-13.97,-1.27) 10(-13.97,1.27) 11(-11.43,-1.27) 12(-11.43,1.27) 13(-8.89,-1.27) 14(-8.89,1.27) 15(-6.35,-1.27) 16(-6.35,1.27) 17(-3.81,-1.27) 18(-3.81,1.27) 19(-1.27,-1.27) 20(-1.27,1.27) 21(1.27,-1.27) 22(1.27,1.27) 23(3.81,-1.27) 24(3.81,1.27) 25(6.35,-1.27) 26(6.35,1.27) 27(8.89,-1.27) 28(8.89,1.27) 29(11.43,-1.27) 30(11.43,1.27) 31(13.97,-1.27) 32(13.97,1.27) 33(16.51,-1.27) 34(16.51,1.27) 35(19.05,-1.27) 36(19.05,1.27) 37(21.59,-1.27) 38(21.59,1.27) 39(24.13,-1.27) 40(24.13,1.27)
Top Overlay:
  lines w0.15: -25.4,0 -22.86,0 -22.86,-2.54 ; -25.4,-2.54 25.4,-2.54 25.4,2.54 -25.4,2.54 -25.4,-2.54
Mechanical 13:
  lines w0.15: -25.4,-2.54 -25.4,2.54 25.4,2.54 25.4,-2.54 -25.4,-2.54
3D body: height 8.5, standoff 2.6, extent -24.447,-1.587 24.447,1.587
3D body: height 2.5, standoff 0.1, extent -25.4,-2.54 25.4,2.54

## PinHeader2x20 P2.54 SMD [mm] "Plug connector"
height 8.5
pads (40):
  rrect25% 1.3x3.7 smd: 1(-24.13,-2.286) 2(-24.13,2.286) 3(-21.59,-2.286) 4(-21.59,2.286) 5(-19.05,-2.286) 6(-19.05,2.286) 7(-16.51,-2.286) 8(-16.51,2.286) 9(-13.97,-2.286) 10(-13.97,2.286) 11(-11.43,-2.286) 12(-11.43,2.286) 13(-8.89,-2.286) 14(-8.89,2.286) 15(-6.35,-2.286) 16(-6.35,2.286) 17(-3.81,-2.286) 18(-3.81,2.286) 19(-1.27,-2.286) 20(-1.27,2.286) 21(1.27,-2.286) 22(1.27,2.286) 23(3.81,-2.286) 24(3.81,2.286) 25(6.35,-2.286) 26(6.35,2.286) 27(8.89,-2.286) 28(8.89,2.286) 29(11.43,-2.286) 30(11.43,2.286) 31(13.97,-2.286) 32(13.97,2.286) 33(16.51,-2.286) 34(16.51,2.286) 35(19.05,-2.286) 36(19.05,2.286) 37(21.59,-2.286) 38(21.59,2.286) 39(24.13,-2.286) 40(24.13,2.286)
Top Overlay:
  region: -25.527,-4.445 -25.527,-3.429 -24.511,-4.445
  lines w0.15: -25.527,-4.445 25.527,-4.445 25.527,4.445 -25.527,4.445 -25.527,-4.445
Mechanical 13:
  lines w0.15: -25.4,-2.54 -25.4,2.54 25.4,2.54 25.4,-2.54 -25.4,-2.54
3D body: height 8.5, standoff 0, extent 3.43,-1.65 4.191,-0.889
3D body: height 8.5, standoff 0, extent 0.89,-1.65 1.651,-0.889
3D body: height 8.5, standoff 0, extent 5.97,-1.65 6.731,-0.889
3D body: height 8.5, standoff 0, extent 8.51,-1.65 9.271,-0.889
3D body: height 8.5, standoff 0, extent 13.59,-1.65 14.351,-0.889
3D body: height 8.5, standoff 0, extent 11.05,-1.65 11.811,-0.889
3D body: height 8.5, standoff 0, extent -11.809,-1.65 -11.048,-0.889
3D body: height 8.5, standoff 0, extent -16.889,-1.65 -16.128,-0.889
3D body: height 8.5, standoff 0, extent -19.429,-1.65 -18.668,-0.889
3D body: height 8.5, standoff 0, extent -21.97,-1.65 -21.209,-0.889
3D body: height 8.5, standoff 0, extent -14.349,-1.65 -13.588,-0.889
3D body: height 8.5, standoff 0, extent -24.51,-1.65 -23.749,-0.889
3D body: height 3.56, standoff 1.27, extent -25.4,-2.54 25.4,2.54
3D body: height 8.5, standoff 0, extent -9.269,-1.65 -8.508,-0.889
3D body: height 8.5, standoff 0, extent -6.729,-1.65 -5.968,-0.889
3D body: height 8.5, standoff 0, extent -1.649,-1.65 -0.888,-0.889
3D body: height 8.5, standoff 0, extent -4.189,-1.65 -3.428,-0.889
3D body: height 0.76, standoff 0, extent -24.51,-3.429 -23.749,-0.889
3D body: height 0.76, standoff 0, extent -21.97,-3.429 -21.209,-0.889
3D body: height 0.76, standoff 0, extent -19.429,-3.429 -18.668,-0.889
3D body: height 0.76, standoff 0, extent -16.889,-3.429 -16.128,-0.889
3D body: height 0.76, standoff 0, extent -14.349,-3.429 -13.588,-0.889
3D body: height 0.76, standoff 0, extent -11.809,-3.429 -11.048,-0.889
3D body: height 0.76, standoff 0, extent -9.269,-3.429 -8.508,-0.889
3D body: height 0.76, standoff 0, extent -6.729,-3.429 -5.968,-0.889
3D body: height 0.76, standoff 0, extent -4.189,-3.429 -3.428,-0.889
3D body: height 0.76, standoff 0, extent -1.649,-3.429 -0.888,-0.889
3D body: height 0.76, standoff 0, extent 0.89,-3.429 1.651,-0.889
3D body: height 0.76, standoff 0, extent 3.43,-3.429 4.191,-0.889
3D body: height 0.76, standoff 0, extent 5.97,-3.429 6.731,-0.889
3D body: height 0.76, standoff 0, extent 8.51,-3.429 9.271,-0.889
3D body: height 0.76, standoff 0, extent 11.05,-3.429 11.811,-0.889
3D body: height 0.76, standoff 0, extent 13.59,-3.429 14.351,-0.889
3D body: height 0.76, standoff 0, extent -24.511,0.889 -23.75,3.429
3D body: height 0.76, standoff 0, extent -21.971,0.889 -21.21,3.429
3D body: height 0.76, standoff 0, extent -19.43,0.889 -18.669,3.429
3D body: height 0.76, standoff 0, extent -16.89,0.889 -16.129,3.429
3D body: height 0.76, standoff 0, extent -14.35,0.889 -13.589,3.429
3D body: height 0.76, standoff 0, extent -11.81,0.889 -11.049,3.429
3D body: height 0.76, standoff 0, extent -9.27,0.889 -8.509,3.429
3D body: height 0.76, standoff 0, extent -6.73,0.889 -5.969,3.429
3D body: height 0.76, standoff 0, extent -4.19,0.889 -3.429,3.429
3D body: height 0.76, standoff 0, extent -1.65,0.889 -0.889,3.429
3D body: height 0.76, standoff 0, extent 0.889,0.889 1.65,3.429
3D body: height 0.76, standoff 0, extent 3.429,0.889 4.19,3.429
3D body: height 0.76, standoff 0, extent 5.969,0.889 6.73,3.429
3D body: height 0.76, standoff 0, extent 8.509,0.889 9.27,3.429
3D body: height 0.76, standoff 0, extent 11.049,0.889 11.81,3.429
3D body: height 0.76, standoff 0, extent 13.589,0.889 14.35,3.429
3D body: height 8.5, standoff 0, extent 3.429,0.889 4.19,1.65
3D body: height 8.5, standoff 0, extent 0.889,0.889 1.65,1.65
3D body: height 8.5, standoff 0, extent 5.969,0.889 6.73,1.65
3D body: height 8.5, standoff 0, extent 8.509,0.889 9.27,1.65
3D body: height 8.5, standoff 0, extent 13.589,0.889 14.35,1.65
3D body: height 8.5, standoff 0, extent 11.049,0.889 11.81,1.65
3D body: height 8.5, standoff 0, extent -11.81,0.889 -11.049,1.65
3D body: height 8.5, standoff 0, extent -16.89,0.889 -16.129,1.65
3D body: height 8.5, standoff 0, extent -19.43,0.889 -18.669,1.65
3D body: height 8.5, standoff 0, extent -21.971,0.889 -21.21,1.65
3D body: height 8.5, standoff 0, extent -14.35,0.889 -13.589,1.65
3D body: height 8.5, standoff 0, extent -24.511,0.889 -23.75,1.65
3D body: height 8.5, standoff 0, extent -9.27,0.889 -8.509,1.65
3D body: height 8.5, standoff 0, extent -6.73,0.889 -5.969,1.65
3D body: height 8.5, standoff 0, extent -1.65,0.889 -0.889,1.65
3D body: height 8.5, standoff 0, extent -4.19,0.889 -3.429,1.65
3D body: height 8.5, standoff 0, extent 21.209,0.889 21.97,1.65
3D body: height 8.5, standoff 0, extent 23.749,0.889 24.51,1.65
3D body: height 8.5, standoff 0, extent 18.669,0.889 19.43,1.65
3D body: height 8.5, standoff 0, extent 16.129,0.889 16.89,1.65
3D body: height 0.76, standoff 0, extent 23.749,0.889 24.51,3.429
3D body: height 0.76, standoff 0, extent 21.209,0.889 21.97,3.429
3D body: height 0.76, standoff 0, extent 18.669,0.889 19.43,3.429
3D body: height 0.76, standoff 0, extent 16.129,0.889 16.89,3.429
3D body: height 0.76, standoff 0, extent 23.75,-3.429 24.511,-0.889
3D body: height 0.76, standoff 0, extent 21.21,-3.429 21.971,-0.889
3D body: height 0.76, standoff 0, extent 18.67,-3.429 19.431,-0.889
3D body: height 0.76, standoff 0, extent 16.13,-3.429 16.891,-0.889
3D body: height 8.5, standoff 0, extent 21.21,-1.65 21.971,-0.889
3D body: height 8.5, standoff 0, extent 23.75,-1.65 24.511,-0.889
3D body: height 8.5, standoff 0, extent 18.67,-1.65 19.431,-0.889
3D body: height 8.5, standoff 0, extent 16.13,-1.65 16.891,-0.889